# EAGLE library part SM1628 (library SM1628)
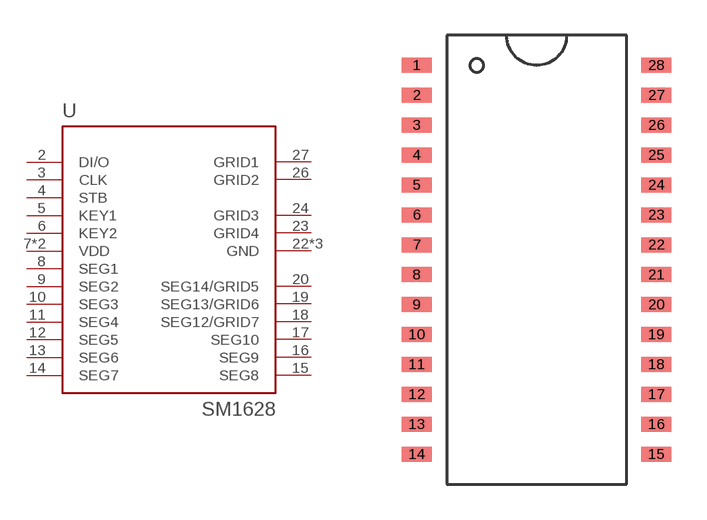
[diagram p0: symbol with the pads of SOP28; footprint SOP28]

Designator prefix -

## SM1628  [SOP28]
2  DI/O
3  CLK
4  STB
5  KEY1
6  KEY2
7  VDD
8  SEG1
9  SEG2
10  SEG3
11  SEG4
12  SEG5
13  SEG6
14  SEG7
15  SEG8
16  SEG9
17  SEG10
18  SEG12/GRID7
19  SEG13/GRID6
20  SEG14/GRID5
21  VDD
22  GND
23  GRID4
24  GRID3
25  GND
26  GRID2
27  GRID1
28  GND

## Footprint SOP28 (pad centres in mm)
smd 1.27 x 0.635: 1 -5.08,8.89; 2 -5.08,7.62; 3 -5.08,6.35; 4 -5.08,5.08; 5 -5.08,3.81; 6 -5.08,2.54; 7 -5.08,1.27; 8 -5.08,0; 9 -5.08,-1.27; 10 -5.08,-2.54; 11 -5.08,-3.81; 12 -5.08,-5.08; 13 -5.08,-6.35; 14 -5.08,-7.62; 15 5.08,-7.62; 16 5.08,-6.35; 17 5.08,-5.08; 18 5.08,-3.81; 19 5.08,-2.54; 20 5.08,-1.27; 21 5.08,0; 22 5.08,1.27; 23 5.08,2.54; 24 5.08,3.81; 25 5.08,5.08; 26 5.08,6.35; 27 5.08,7.62; 28 5.08,8.89